# EAGLE library part M24 (library SparkFun-Connectors)
1x24 .1" header
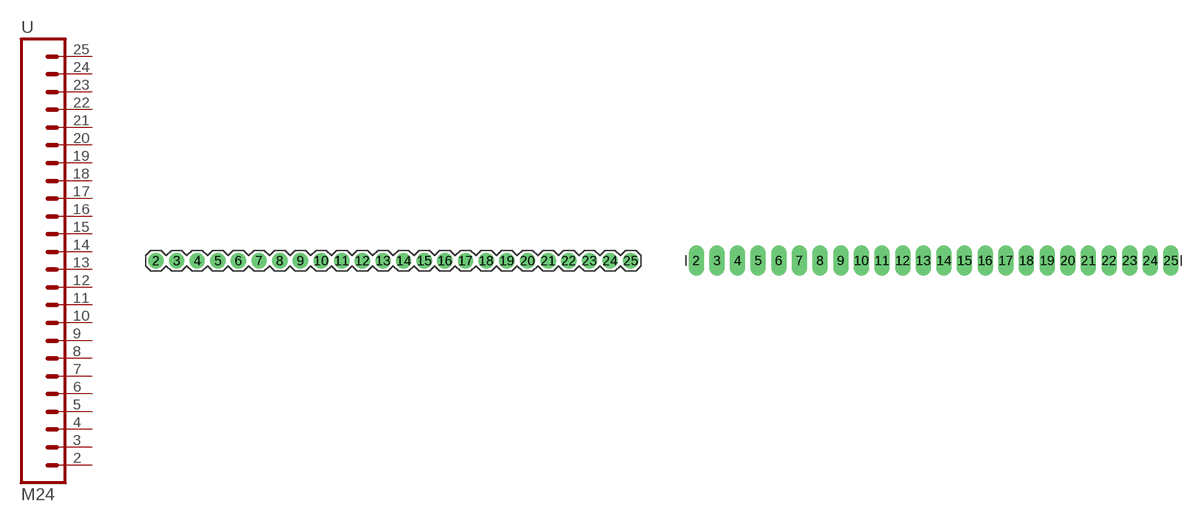
[diagram p33: symbol with the pads of 1X24; footprints 1X24, 1X24_LONGPADS]

Designator prefix -

## M24  [1X24]
2  2  pas
3  3  pas
4  4  pas
5  5  pas
6  6  pas
7  7  pas
8  8  pas
9  9  pas
10  10  pas
11  11  pas
12  12  pas
13  13  pas
14  14  pas
15  15  pas
16  16  pas
17  17  pas
18  18  pas
19  19  pas
20  20  pas
21  21  pas
22  22  pas
23  23  pas
24  24  pas
25  25  pas

## M24LONGPADS  [1X24_LONGPADS]
Pads as for 1X24

## M241X24SMD  [1X24SMD]
P$1  2  pas
P$2  3  pas
P$3  4  pas
P$4  5  pas
P$5  6  pas
P$6  7  pas
P$7  8  pas
P$8  9  pas
P$9  10  pas
P$10  11  pas
P$11  12  pas
P$12  13  pas
P$13  14  pas
P$14  15  pas
P$15  16  pas
P$16  17  pas
P$17  18  pas
P$18  19  pas
P$19  20  pas
P$20  21  pas
P$21  22  pas
P$22  23  pas
P$23  24  pas
P$24  25  pas

## Footprint 1X24 (pad centres in mm)
drill 1.016 pad 1.88: 2 -26.67,0; 3 -24.13,0; 4 -21.59,0; 5 -19.05,0; 6 -16.51,0; 7 -13.97,0; 8 -11.43,0; 9 -8.89,0; 10 -6.35,0; 11 -3.81,0; 12 -1.27,0; 13 1.27,0; 14 3.81,0; 15 6.35,0; 16 8.89,0; 17 11.43,0; 18 13.97,0; 19 16.51,0; 20 19.05,0; 21 21.59,0; 22 24.13,0; 23 26.67,0; 24 29.21,0; 25 31.75,0

## Footprint 1X24_LONGPADS (pad centres in mm)
drill 1.118 pad 1.88 long: 2 -26.67,0; 3 -24.13,0; 4 -21.59,0; 5 -19.05,0; 6 -16.51,0; 7 -13.97,0; 8 -11.43,0; 9 -8.89,0; 10 -6.35,0; 11 -3.81,0; 12 -1.27,0; 13 1.27,0; 14 3.81,0; 15 6.35,0; 16 8.89,0; 17 11.43,0; 18 13.97,0; 19 16.51,0; 20 19.05,0; 21 21.59,0; 22 24.13,0; 23 26.67,0; 24 29.21,0; 25 31.75,0

## Footprint 1X24SMD (pad centres in mm)
smd 1.27 x 2.54: P$1 1.27,0; P$2 3.81,0; P$3 6.35,0; P$4 8.89,0; P$5 11.43,0; P$6 13.97,0; P$7 16.51,0; P$8 19.05,0; P$9 21.59,0; P$10 24.13,0; P$11 26.67,0; P$12 29.21,0; P$13 31.75,0; P$14 34.29,0; P$15 36.83,0; P$16 39.37,0; P$17 41.91,0; P$18 44.45,0; P$19 46.99,0; P$20 49.53,0; P$21 52.07,0; P$22 54.61,0; P$23 57.15,0; P$24 59.69,0